# EAGLE library part MCF5282 (library JLB6_Processor)
Coldfire MCF5282 can, Ethernet, 512k Flash, 64k Ram
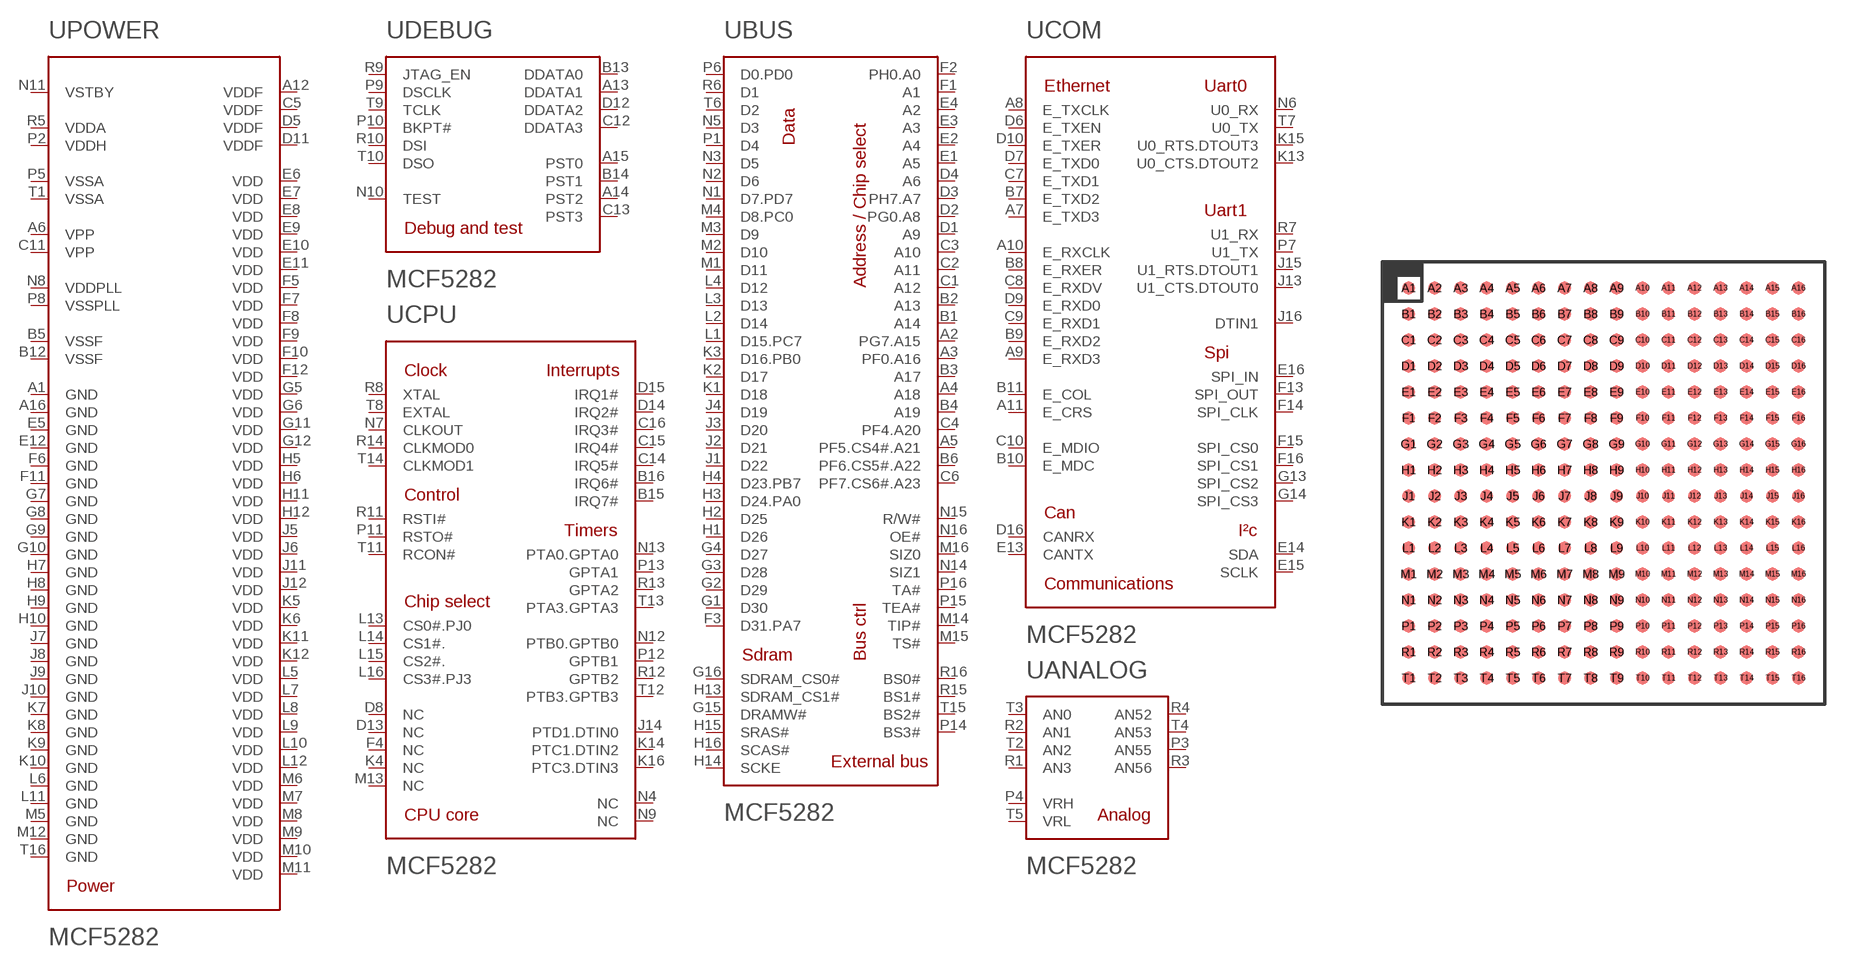
[diagram p5: symbol with the pads of MAPBGA-256; footprint MAPBGA-256]

Designator prefix U; gates ANALOG=MCF5282_ANALOG BUS=MCF5282_BUS COM=MCF5282_COM DEBUG=MCF5282_DEBUG POWER=MCF5282_PWR CPU=MCF5282_CPU

## MCF5282  [MAPBGA-256]
A1  POWER:GND  pwr
A2  BUS:PG7.A15  out
A3  BUS:PF0.A16  out
A4  BUS:A18  out
A5  BUS:PF5.CS4#.A21  out
A6  POWER:VPP  pwr
A7  COM:E_TXD3  out
A8  COM:E_TXCLK  in
A9  COM:E_RXD3  in
A10  COM:E_RXCLK  in
A11  COM:E_CRS  in
A12  POWER:VDDF  pwr
A13  DEBUG:DDATA1
A14  DEBUG:PST2
A15  DEBUG:PST0
A16  POWER:GND  pwr
B1  BUS:A14  out
B2  BUS:A13  out
B3  BUS:A17  out
B4  BUS:A19  out
B5  POWER:VSSF  pwr
B6  BUS:PF6.CS5#.A22  out
B7  COM:E_TXD2  out
B8  COM:E_RXER  in
B9  COM:E_RXD2  in
B10  COM:E_MDC  out
B11  COM:E_COL  in
B12  POWER:VSSF  pwr
B13  DEBUG:DDATA0
B14  DEBUG:PST1
B15  CPU:IRQ7#
B16  CPU:IRQ6#
C1  BUS:A12  out
C2  BUS:A11  out
C3  BUS:A10  out
C4  BUS:PF4.A20  out
C5  POWER:VDDF  pwr
C6  BUS:PF7.CS6#.A23  out
C7  COM:E_TXD1  out
C8  COM:E_RXDV  in
C9  COM:E_RXD1  in
C10  COM:E_MDIO
C11  POWER:VPP  pwr
C12  DEBUG:DDATA3
C13  DEBUG:PST3
C14  CPU:IRQ5#
C15  CPU:IRQ4#
C16  CPU:IRQ3#
D1  BUS:A9  out
D2  BUS:PG0.A8  out
D3  BUS:PH7.A7  out
D4  BUS:A6  out
D5  POWER:VDDF  pwr
D6  COM:E_TXEN  out
D7  COM:E_TXD0  out
D8  CPU:NC  pas
D9  COM:E_RXD0  in
D10  COM:E_TXER  out
D11  POWER:VDDF  pwr
D12  DEBUG:DDATA2
D13  CPU:NC  pas
D14  CPU:IRQ2#
D15  CPU:IRQ1#
D16  COM:CANRX  in
E1  BUS:A5  out
E2  BUS:A4  out
E3  BUS:A3  out
E4  BUS:A2  out
E5  POWER:GND  pwr
E6  POWER:VDD  pwr
E7  POWER:VDD  pwr
E8  POWER:VDD  pwr
E9  POWER:VDD  pwr
E10  POWER:VDD  pwr
E11  POWER:VDD  pwr
E12  POWER:GND  pwr
E13  COM:CANTX  out
E14  COM:SDA
E15  COM:SCLK
E16  COM:SPI_IN
F1  BUS:A1  out
F2  BUS:PH0.A0  out
F3  BUS:D31.PA7  out
F4  CPU:NC  pas
F5  POWER:VDD  pwr
F6  POWER:GND  pwr
F7  POWER:VDD  pwr
F8  POWER:VDD  pwr
F9  POWER:VDD  pwr
F10  POWER:VDD  pwr
F11  POWER:GND  pwr
F12  POWER:VDD  pwr
F13  COM:SPI_OUT
F14  COM:SPI_CLK
F15  COM:SPI_CS0
F16  COM:SPI_CS1
G1  BUS:D30  out
G2  BUS:D29  out
G3  BUS:D28  out
G4  BUS:D27  out
G5  POWER:VDD  pwr
G6  POWER:VDD  pwr
G7  POWER:GND  pwr
G8  POWER:GND  pwr
G9  POWER:GND  pwr
G10  POWER:GND  pwr
G11  POWER:VDD  pwr
G12  POWER:VDD  pwr
G13  COM:SPI_CS2
G14  COM:SPI_CS3
G15  BUS:DRAMW#  out
G16  BUS:SDRAM_CS0#  out
H1  BUS:D26  out
H2  BUS:D25  out
H3  BUS:D24.PA0  out
H4  BUS:D23.PB7  out
H5  POWER:VDD  pwr
H6  POWER:VDD  pwr
H7  POWER:GND  pwr
H8  POWER:GND  pwr
H9  POWER:GND  pwr
H10  POWER:GND  pwr
H11  POWER:VDD  pwr
H12  POWER:VDD  pwr
H13  BUS:SDRAM_CS1#  out
H14  BUS:SCKE  out
H15  BUS:SRAS#  out
H16  BUS:SCAS#  out
J1  BUS:D22  out
J2  BUS:D21  out
J3  BUS:D20  out
J4  BUS:D19  out
J5  POWER:VDD  pwr
J6  POWER:VDD  pwr
J7  POWER:GND  pwr
J8  POWER:GND  pwr
J9  POWER:GND  pwr
J10  POWER:GND  pwr
J11  POWER:VDD  pwr
J12  POWER:VDD  pwr
J13  COM:U1_CTS.DTOUT0
J14  CPU:PTD1.DTIN0
J15  COM:U1_RTS.DTOUT1
J16  COM:DTIN1  out
K1  BUS:D18  out
K2  BUS:D17  out
K3  BUS:D16.PB0  out
K4  CPU:NC  pas
K5  POWER:VDD  pwr
K6  POWER:VDD  pwr
K7  POWER:GND  pwr
K8  POWER:GND  pwr
K9  POWER:GND  pwr
K10  POWER:GND  pwr
K11  POWER:VDD  pwr
K12  POWER:VDD  pwr
K13  COM:U0_CTS.DTOUT2
K14  CPU:PTC1.DTIN2
K15  COM:U0_RTS.DTOUT3
K16  CPU:PTC3.DTIN3
L1  BUS:D15.PC7  out
L2  BUS:D14  out
L3  BUS:D13  out
L4  BUS:D12  out
L5  POWER:VDD  pwr
L6  POWER:GND  pwr
L7  POWER:VDD  pwr
L8  POWER:VDD  pwr
L9  POWER:VDD  pwr
L10  POWER:VDD  pwr
L11  POWER:GND  pwr
L12  POWER:VDD  pwr
L13  CPU:CS0#.PJ0  out
L14  CPU:CS1#.  out
L15  CPU:CS2#.  out
L16  CPU:CS3#.PJ3  out
M1  BUS:D11  out
M2  BUS:D10  out
M3  BUS:D9  out
M4  BUS:D8.PC0  out
M5  POWER:GND  pwr
M6  POWER:VDD  pwr
M7  POWER:VDD  pwr
M8  POWER:VDD  pwr
M9  POWER:VDD  pwr
M10  POWER:VDD  pwr
M11  POWER:VDD  pwr
M12  POWER:GND  pwr
M13  CPU:NC  pas
M14  BUS:TIP#  out
M15  BUS:TS#
M16  BUS:SIZ0  out
N1  BUS:D7.PD7  out
N2  BUS:D6  out
N3  BUS:D5  out
N4  CPU:NC  pas
N5  BUS:D3  out
N6  COM:U0_RX
N7  CPU:CLKOUT  out
N8  POWER:VDDPLL  pwr
N9  CPU:NC  pas
N10  DEBUG:TEST
N11  POWER:VSTBY  pwr
N12  CPU:PTB0.GPTB0
N13  CPU:PTA0.GPTA0
N14  BUS:SIZ1  out
N15  BUS:R/W#  out
N16  BUS:OE#  out
P1  BUS:D4  out
P2  POWER:VDDH  pwr
P3  ANALOG:AN55
P4  ANALOG:VRH  in
P5  POWER:VSSA  pwr
P6  BUS:D0.PD0  out
P7  COM:U1_TX
P8  POWER:VSSPLL  pwr
P9  DEBUG:DSCLK
P10  DEBUG:BKPT#
P11  CPU:RSTO#  out
P12  CPU:GPTB1
P13  CPU:GPTA1
P14  BUS:BS3#
P15  BUS:TEA#
P16  BUS:TA#  out
R1  ANALOG:AN3
R2  ANALOG:AN1
R3  ANALOG:AN56
R4  ANALOG:AN52
R5  POWER:VDDA  pwr
R6  BUS:D1  out
R7  COM:U1_RX
R8  CPU:XTAL  out
R9  DEBUG:JTAG_EN
R10  DEBUG:DSI
R11  CPU:RSTI#  in
R12  CPU:GPTB2
R13  CPU:GPTA2
R14  CPU:CLKMOD0
R15  BUS:BS1#
R16  BUS:BS0#
T1  POWER:VSSA  pwr
T2  ANALOG:AN2
T3  ANALOG:AN0
T4  ANALOG:AN53
T5  ANALOG:VRL  in
T6  BUS:D2  out
T7  COM:U0_TX
T8  CPU:EXTAL  in
T9  DEBUG:TCLK
T10  DEBUG:DSO
T11  CPU:RCON#
T12  CPU:PTB3.GPTB3
T13  CPU:PTA3.GPTA3
T14  CPU:CLKMOD1
T15  BUS:BS2#
T16  POWER:GND  pwr

## Footprint MAPBGA-256 (pad centres in mm)
MAPBGA 256 pitch 1mm 17x17mm
smd 0.5 x 0.5: A1 -7.5,7.5; A2 -6.5,7.5; A3 -5.5,7.5; A4 -4.5,7.5; A5 -3.5,7.5; A6 -2.5,7.5; A7 -1.5,7.5; A8 -0.5,7.5; A9 0.5,7.5; A10 1.5,7.5; A11 2.5,7.5; A12 3.5,7.5; A13 4.5,7.5; A14 5.5,7.5; A15 6.5,7.5; A16 7.5,7.5; B1 -7.5,6.5; B2 -6.5,6.5; B3 -5.5,6.5; B4 -4.5,6.5; B5 -3.5,6.5; B6 -2.5,6.5; B7 -1.5,6.5; B8 -0.5,6.5; B9 0.5,6.5; B10 1.5,6.5; B11 2.5,6.5; B12 3.5,6.5; B13 4.5,6.5; B14 5.5,6.5; B15 6.5,6.5; B16 7.5,6.5; C1 -7.5,5.5; C2 -6.5,5.5; C3 -5.5,5.5; C4 -4.5,5.5; C5 -3.5,5.5; C6 -2.5,5.5; C7 -1.5,5.5; C8 -0.5,5.5; C9 0.5,5.5; C10 1.5,5.5; C11 2.5,5.5; C12 3.5,5.5; C13 4.5,5.5; C14 5.5,5.5; C15 6.5,5.5; C16 7.5,5.5; D1 -7.5,4.5; D2 -6.5,4.5; D3 -5.5,4.5; D4 -4.5,4.5; D5 -3.5,4.5; D6 -2.5,4.5; D7 -1.5,4.5; D8 -0.5,4.5; D9 0.5,4.5; D10 1.5,4.5; D11 2.5,4.5; D12 3.5,4.5; D13 4.5,4.5; D14 5.5,4.5; D15 6.5,4.5; D16 7.5,4.5; E1 -7.5,3.5; E2 -6.5,3.5; E3 -5.5,3.5; E4 -4.5,3.5; E5 -3.5,3.5; E6 -2.5,3.5; E7 -1.5,3.5; E8 -0.5,3.5; E9 0.5,3.5; E10 1.5,3.5; E11 2.5,3.5; E12 3.5,3.5; E13 4.5,3.5; E14 5.5,3.5; E15 6.5,3.5; E16 7.5,3.5; F1 -7.5,2.5; F2 -6.5,2.5; F3 -5.5,2.5; F4 -4.5,2.5; F5 -3.5,2.5; F6 -2.5,2.5; F7 -1.5,2.5; F8 -0.5,2.5; F9 0.5,2.5; F10 1.5,2.5; F11 2.5,2.5; F12 3.5,2.5; F13 4.5,2.5; F14 5.5,2.5; F15 6.5,2.5; F16 7.5,2.5; G1 -7.5,1.5; G2 -6.5,1.5; G3 -5.5,1.5; G4 -4.5,1.5; G5 -3.5,1.5; G6 -2.5,1.5; G7 -1.5,1.5; G8 -0.5,1.5; G9 0.5,1.5; G10 1.5,1.5; G11 2.5,1.5; G12 3.5,1.5; G13 4.5,1.5; G14 5.5,1.5; G15 6.5,1.5; G16 7.5,1.5; H1 -7.5,0.5; H2 -6.5,0.5; H3 -5.5,0.5; H4 -4.5,0.5; H5 -3.5,0.5; H6 -2.5,0.5; H7 -1.5,0.5; H8 -0.5,0.5; H9 0.5,0.5; H10 1.5,0.5; H11 2.5,0.5; H12 3.5,0.5; H13 4.5,0.5; H14 5.5,0.5; H15 6.5,0.5; H16 7.5,0.5; J1 -7.5,-0.5; J2 -6.5,-0.5; J3 -5.5,-0.5; J4 -4.5,-0.5; J5 -3.5,-0.5; J6 -2.5,-0.5; J7 -1.5,-0.5; J8 -0.5,-0.5; J9 0.5,-0.5; J10 1.5,-0.5; J11 2.5,-0.5; J12 3.5,-0.5; J13 4.5,-0.5; J14 5.5,-0.5; J15 6.5,-0.5; J16 7.5,-0.5; K1 -7.5,-1.5; K2 -6.5,-1.5; K3 -5.5,-1.5; K4 -4.5,-1.5; K5 -3.5,-1.5; K6 -2.5,-1.5; K7 -1.5,-1.5; K8 -0.5,-1.5; K9 0.5,-1.5; K10 1.5,-1.5; K11 2.5,-1.5; K12 3.5,-1.5; K13 4.5,-1.5; K14 5.5,-1.5; K15 6.5,-1.5; K16 7.5,-1.5; L1 -7.5,-2.5; L2 -6.5,-2.5; L3 -5.5,-2.5; L4 -4.5,-2.5; L5 -3.5,-2.5; L6 -2.5,-2.5; L7 -1.5,-2.5; L8 -0.5,-2.5; L9 0.5,-2.5; L10 1.5,-2.5; L11 2.5,-2.5; L12 3.5,-2.5; L13 4.5,-2.5; L14 5.5,-2.5; L15 6.5,-2.5; L16 7.5,-2.5; M1 -7.5,-3.5; M2 -6.5,-3.5; M3 -5.5,-3.5; M4 -4.5,-3.5; M5 -3.5,-3.5; M6 -2.5,-3.5; M7 -1.5,-3.5; M8 -0.5,-3.5; M9 0.5,-3.5; M10 1.5,-3.5; M11 2.5,-3.5; M12 3.5,-3.5; M13 4.5,-3.5; M14 5.5,-3.5; M15 6.5,-3.5; M16 7.5,-3.5; N1 -7.5,-4.5; N2 -6.5,-4.5; N3 -5.5,-4.5; N4 -4.5,-4.5; N5 -3.5,-4.5; N6 -2.5,-4.5; N7 -1.5,-4.5; N8 -0.5,-4.5; N9 0.5,-4.5; N10 1.5,-4.5; N11 2.5,-4.5; N12 3.5,-4.5; N13 4.5,-4.5; N14 5.5,-4.5; N15 6.5,-4.5; N16 7.5,-4.5; P1 -7.5,-5.5; P2 -6.5,-5.5; P3 -5.5,-5.5; P4 -4.5,-5.5; P5 -3.5,-5.5; P6 -2.5,-5.5; P7 -1.5,-5.5; P8 -0.5,-5.5; P9 0.5,-5.5; P10 1.5,-5.5; P11 2.5,-5.5; P12 3.5,-5.5; P13 4.5,-5.5; P14 5.5,-5.5; P15 6.5,-5.5; P16 7.5,-5.5; R1 -7.5,-6.5; R2 -6.5,-6.5; R3 -5.5,-6.5; R4 -4.5,-6.5; R5 -3.5,-6.5; R6 -2.5,-6.5; R7 -1.5,-6.5; R8 -0.5,-6.5; R9 0.5,-6.5; R10 1.5,-6.5; R11 2.5,-6.5; R12 3.5,-6.5; R13 4.5,-6.5; R14 5.5,-6.5; R15 6.5,-6.5; R16 7.5,-6.5; T1 -7.5,-7.5; T2 -6.5,-7.5; T3 -5.5,-7.5; T4 -4.5,-7.5; T5 -3.5,-7.5; T6 -2.5,-7.5; T7 -1.5,-7.5; T8 -0.5,-7.5; T9 0.5,-7.5; T10 1.5,-7.5; T11 2.5,-7.5; T12 3.5,-7.5; T13 4.5,-7.5; T14 5.5,-7.5; T15 6.5,-7.5; T16 7.5,-7.5